# EAGLE library part FSA642 (library personal)
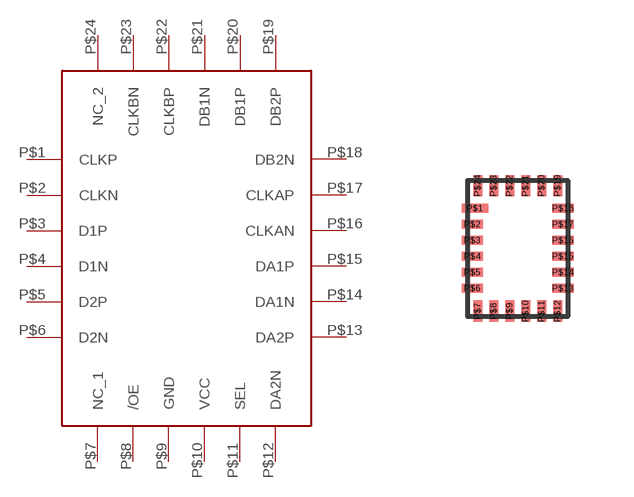
[diagram p0: symbol with the pads of UMLP-24; footprint UMLP-24]

Designator prefix -

## FSA642  [UMLP-24]
P$1  CLKP
P$2  CLKN
P$3  D1P
P$4  D1N
P$5  D2P
P$6  D2N
P$7  NC_1
P$8  /OE
P$9  GND
P$10  VCC
P$11  SEL
P$12  DA2N
P$13  DA2P
P$14  DA1N
P$15  DA1P
P$16  CLKAN
P$17  CLKAP
P$18  DB2N
P$19  DB2P
P$20  DB1P
P$21  DB1N
P$22  CLKBP
P$23  CLKBN
P$24  NC_2

## Footprint UMLP-24 (pad centres in mm)
smd 0.663 x 0.225: P$1 -1.069,1
smd 0.535 x 0.225: P$2 -1.133,0.6; P$3 -1.133,0.2; P$4 -1.133,-0.2; P$5 -1.133,-0.6; P$6 -1.133,-1; P$13 1.133,-1; P$14 1.133,-0.6; P$15 1.133,-0.2; P$16 1.133,0.2; P$17 1.133,0.6; P$18 1.133,1
smd 0.225 x 0.535: P$7 -1,-1.568; P$8 -0.6,-1.569; P$9 -0.2,-1.569; P$10 0.2,-1.569; P$11 0.6,-1.569; P$12 1,-1.569; P$19 1,1.568; P$20 0.6,1.568; P$21 0.2,1.568; P$22 -0.2,1.568; P$23 -0.6,1.568; P$24 -1,1.568